# EAGLE library part 74*52 (library dec-con)
Expandable 2-2-2-3 Input AND-OR gate.
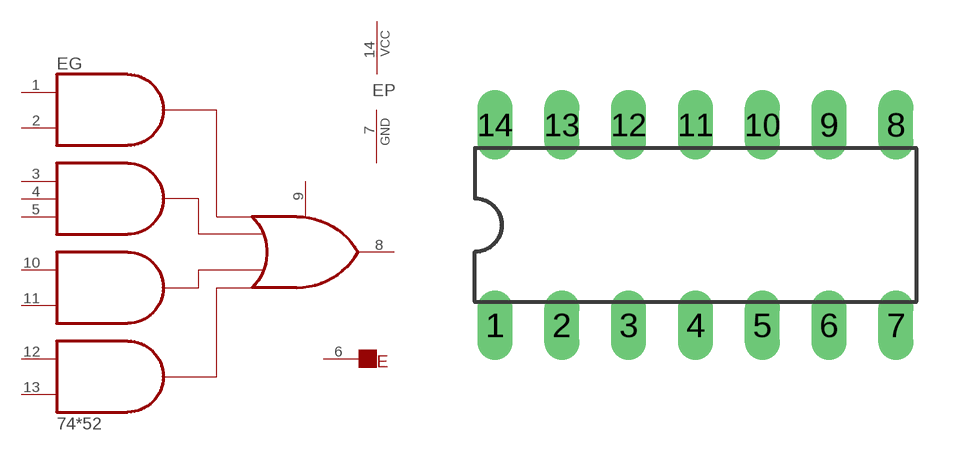
[diagram p95: symbol with the pads of DIL14; footprint DIL14]

Designator prefix E; gates G=7452 P=PWRN G$1=NC

## 74H52  [DIL14]
1  G:I1  in
2  G:I2  in
3  G:I3  in
4  G:I4  in
5  G:I5  in
6  G$1:NC  pas
7  P:GND  pwr
8  G:O8  out
9  G:I9  pas
10  G:I10  in
11  G:I11  in
12  G:I12  in
13  G:I13  in
14  P:VCC  pwr

## Footprint DIL14 (pad centres in mm)
Dual In Line Package
drill 0.813 long: 1 -7.62,-3.81; 2 -5.08,-3.81; 3 -2.54,-3.81; 4 0,-3.81; 5 2.54,-3.81; 6 5.08,-3.81; 7 7.62,-3.81; 8 7.62,3.81; 9 5.08,3.81; 10 2.54,3.81; 11 0,3.81; 12 -2.54,3.81; 13 -5.08,3.81; 14 -7.62,3.81